# EAGLE library part RS232_TTL (library Ravender)
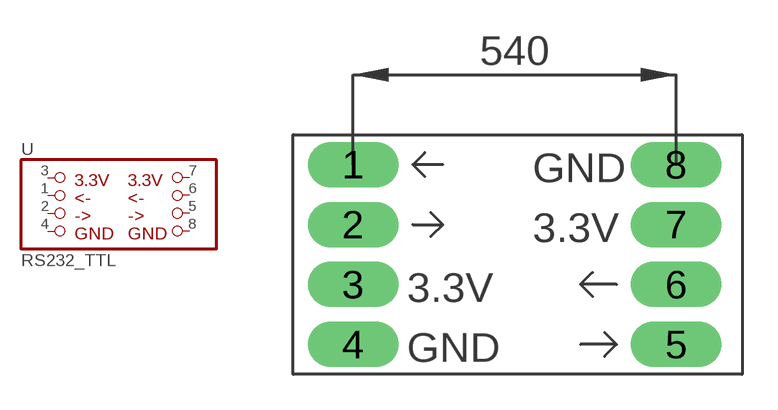
[diagram p3: symbol with the pads of RS232_TTL; footprint RS232_TTL]

Designator prefix -

## RS232_TTL  [RS232_TTL]
1  1  pas
2  2  pas
3  3  pas
4  4  pas
5  5  pas
6  6  pas
7  7  pas
8  8  pas

## Footprint RS232_TTL (pad centres in mm)
PIN HEADER
drill 1.016 pad 1.93 long: 1 -6.35,3.81; 2 -6.35,1.27; 3 -6.35,-1.27; 4 -6.35,-3.81; 5 7.366,-3.81; 6 7.366,-1.27; 7 7.366,1.27; 8 7.366,3.81